# Altium integrated library TI Power Management Linear Regulator Single Channel LDO (400-7500mA).IntLib: 1408 symbols (part 21 of 60)
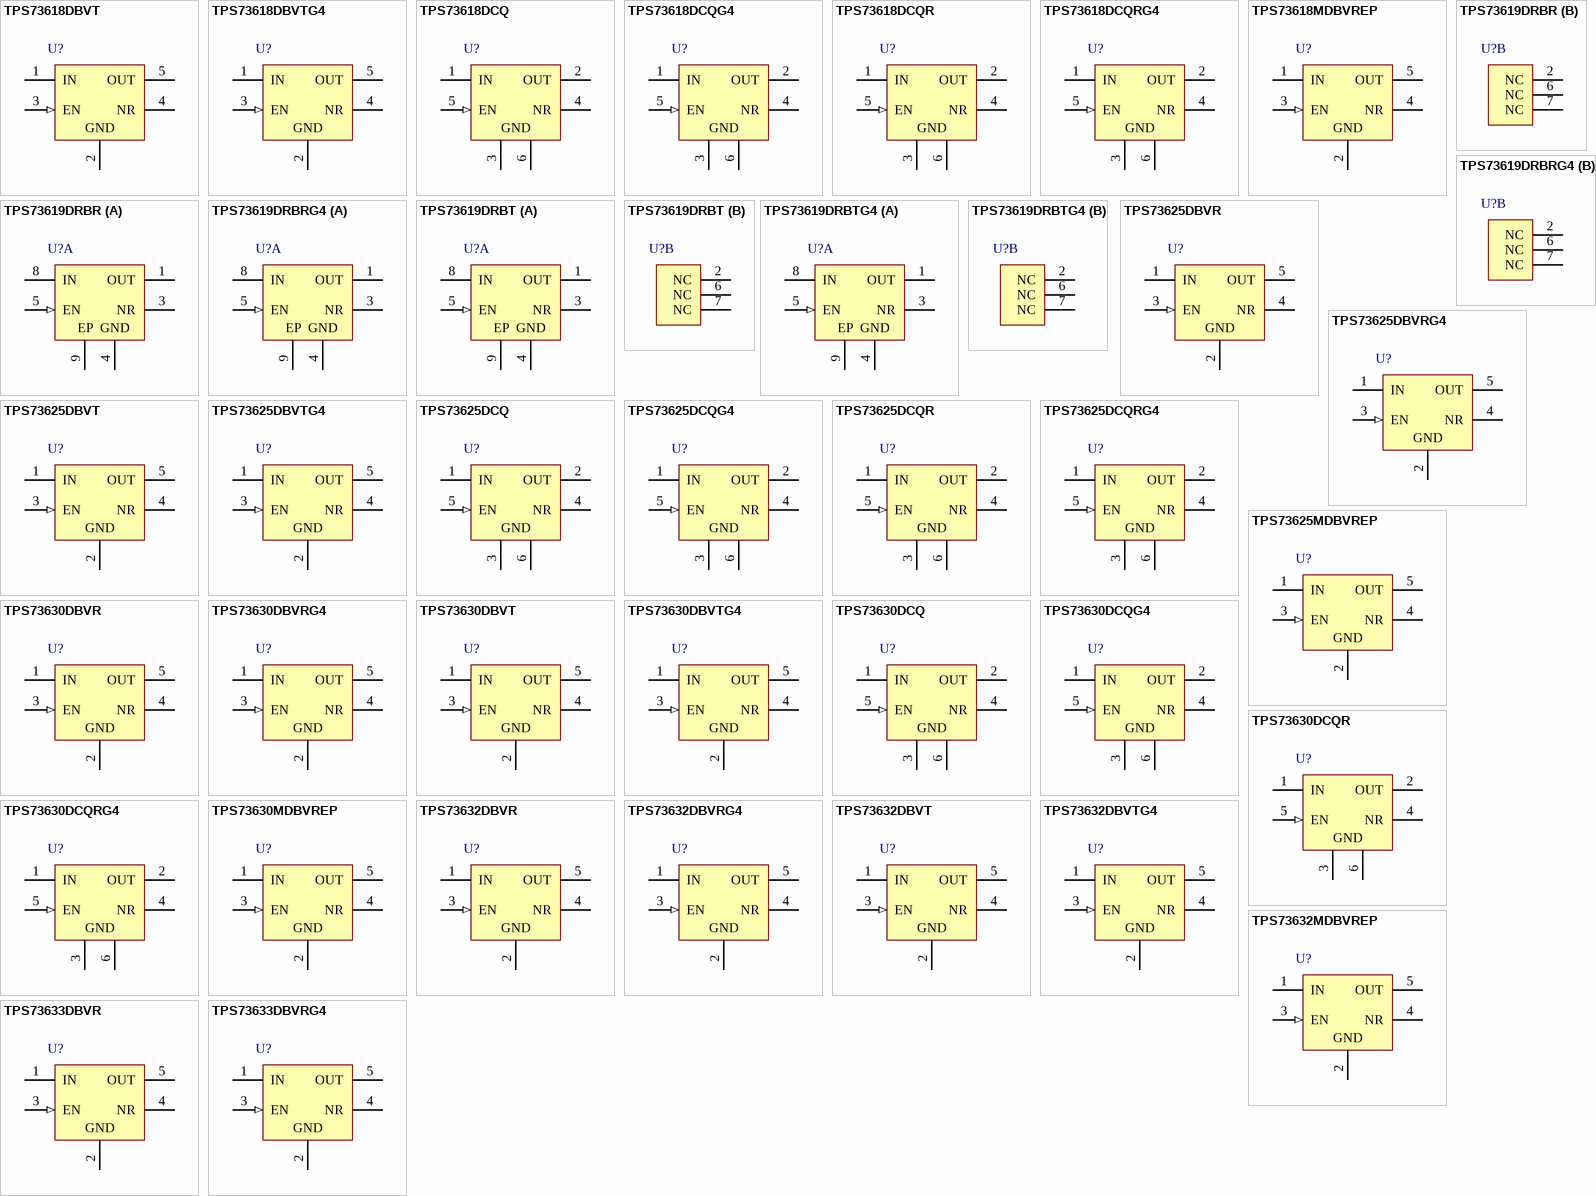
[diagram p70: symbols TPS73618DBVT to TPS73633DBVRG4]

## TPS73632DBVRG4
designator U?
Single Output Low Noise LDO, 400 mA, Fixed 3.2 V Output, 1.7 to 5.5 V Input, with Reverse Current Protection, 5-pin SOT-23 (DBV), -40 to 85 degC, Green (RoHS & no Sb/Br); Manufacturer: Texas Instruments; PartNumber: TPS73632DBVRG4; Accuracy(%): 1; Fixed Output Options(V): 3.2; Iout(Max)(A): 0.4; Iq(Typ)(mA): 0.3; Rating: Catalog; SubFamily: Single Channel LDO; Vdo(Typ)(mV): 75; Vin(Max)(V): 5.5; Vin(Min)(V): 1.7; DatasheetVersion: SBVS038T; PackageVersion: 4073253-4/K; PackageReference: DBV5; PackageDescription: 5-Pin Plastic Small Outline, Body 1.60 Ã— 2.90 mm, Pitch 0.95 mm; Supplier 1: Digi-Key; Supplier Part Number 1: TPS73632DBVRG4-ND; Supplier 2: Newark; Supplier Part Number 2: 71J8238; Supplier 3: Mouser; Supplier Part Number 3: 595-TPS73632DBVRG4; Eco-Plan: Green (RoHS & no Sb/Br); Vout Adj(Max)(V): 3.2; Vout Adj(Min)(V): 3.2; Mounting Technology: Surface Mount; Code_JEDEC: MO-178; ComponentLink1Description: Manufacturer URL; ComponentLink1URL: http://www.ti.com/; ComponentLink2Description: Datasheet; ComponentLink2URL: http://www.ti.com/general/docs/lit/getliterature.tsp?genericPartNumber=TPS73632&fileType=pdf; ComponentLink3Description: Package Specification; ComponentLink3URL: http://www.ti.com/litv/pdf/mpds018i; ComponentLink4Description: URL Link1; ComponentLink4URL: Samples URL:http://www.ti.com/product/tps73632#samples
footprint TI-DBV5_N (SOT23, 5-Leads, Body 2.9x1.6mm, Pitch 0.95mm, IPC Medium Density)
footprint TI-DBV5_L (SOT23, 5-Leads, Body 2.9x1.6mm, Pitch 0.95mm, IPC High Density)
footprint TI-DBV5_M (SOT23, 5-Leads, Body 2.9x1.6mm, Pitch 0.95mm, IPC Low Density)
pins: 1 IN (power) "Input supply.", 2 GND (power) "Ground.", 3 EN (in) "Driving the enable pin (EN) high turns on the regulator .Driving this pin low puts the regulator into shutdown mode.EN can be connected to IN if not used.", 4 NR "Fixed voltage versions only; connecting an external capacitor to this pin bypasses noise generated by the internal bandgap. This capacitor allows output noise to be reduced to very low levels.", 5 OUT (power) "Output for the regulator. A small capacitor (total typical capacitance >= 2.0uF ceramic) is needed from this pin to ground to assure stability."

## TPS73632DBVT
designator U?
Single Output Low Noise LDO, 400 mA, Fixed 3.2 V Output, 1.7 to 5.5 V Input, with Reverse Current Protection, 5-pin SOT-23 (DBV), -40 to 85 degC, Green (RoHS & no Sb/Br); Manufacturer: Texas Instruments; PartNumber: TPS73632DBVT; Accuracy(%): 1; Fixed Output Options(V): 3.2; Iout(Max)(A): 0.4; Iq(Typ)(mA): 0.3; Rating: Catalog; SubFamily: Single Channel LDO; Vdo(Typ)(mV): 75; Vin(Max)(V): 5.5; Vin(Min)(V): 1.7; DatasheetVersion: SBVS038T; PackageVersion: 4073253-4/K; PackageReference: DBV5; PackageDescription: 5-Pin Plastic Small Outline, Body 1.60 Ã— 2.90 mm, Pitch 0.95 mm; Supplier 1: Digi-Key; Supplier Part Number 1: 296-17424-2-ND; Supplier 2: Digi-Key; Supplier Part Number 2: 296-17424-1-ND; Supplier 3: Digi-Key; Supplier Part Number 3: 296-17424-6-ND; Supplier 4: Newark; Supplier Part Number 4: 44J2542; Supplier 5: Mouser; Supplier Part Number 5: 595-TPS73632DBVT; Eco-Plan: Green (RoHS & no Sb/Br); Vout Adj(Max)(V): 3.2; Vout Adj(Min)(V): 3.2; Mounting Technology: Surface Mount; Code_JEDEC: MO-178; ComponentLink1Description: Manufacturer URL; ComponentLink1URL: http://www.ti.com/; ComponentLink2Description: Datasheet; ComponentLink2URL: http://www.ti.com/general/docs/lit/getliterature.tsp?genericPartNumber=TPS73632&fileType=pdf; ComponentLink3Description: Package Specification; ComponentLink3URL: http://www.ti.com/litv/pdf/mpds018i; ComponentLink4Description: URL Link1; ComponentLink4URL: Samples URL:http://www.ti.com/product/tps73632#samples
footprint TI-DBV5_N (SOT23, 5-Leads, Body 2.9x1.6mm, Pitch 0.95mm, IPC Medium Density)
footprint TI-DBV5_L (SOT23, 5-Leads, Body 2.9x1.6mm, Pitch 0.95mm, IPC High Density)
footprint TI-DBV5_M (SOT23, 5-Leads, Body 2.9x1.6mm, Pitch 0.95mm, IPC Low Density)
pins: 1 IN (power) "Input supply.", 2 GND (power) "Ground.", 3 EN (in) "Driving the enable pin (EN) high turns on the regulator .Driving this pin low puts the regulator into shutdown mode.EN can be connected to IN if not used.", 4 NR "Fixed voltage versions only; connecting an external capacitor to this pin bypasses noise generated by the internal bandgap. This capacitor allows output noise to be reduced to very low levels.", 5 OUT (power) "Output for the regulator. A small capacitor (total typical capacitance >= 2.0uF ceramic) is needed from this pin to ground to assure stability."

## TPS73632DBVTG4
designator U?
Single Output Low Noise LDO, 400 mA, Fixed 3.2 V Output, 1.7 to 5.5 V Input, with Reverse Current Protection, 5-pin SOT-23 (DBV), -40 to 85 degC, Green (RoHS & no Sb/Br); Manufacturer: Texas Instruments; PartNumber: TPS73632DBVTG4; Accuracy(%): 1; Fixed Output Options(V): 3.2; Iout(Max)(A): 0.4; Iq(Typ)(mA): 0.3; Rating: Catalog; SubFamily: Single Channel LDO; Vdo(Typ)(mV): 75; Vin(Max)(V): 5.5; Vin(Min)(V): 1.7; DatasheetVersion: SBVS038T; PackageVersion: 4073253-4/K; PackageReference: DBV5; PackageDescription: 5-Pin Plastic Small Outline, Body 1.60 Ã— 2.90 mm, Pitch 0.95 mm; Supplier 1: Digi-Key; Supplier Part Number 1: TPS73632DBVTG4-ND; Supplier 2: Mouser; Supplier Part Number 2: 595-TPS73632DBVTG4; Eco-Plan: Green (RoHS & no Sb/Br); Vout Adj(Max)(V): 3.2; Vout Adj(Min)(V): 3.2; Mounting Technology: Surface Mount; Code_JEDEC: MO-178; ComponentLink1Description: Manufacturer URL; ComponentLink1URL: http://www.ti.com/; ComponentLink2Description: Datasheet; ComponentLink2URL: http://www.ti.com/general/docs/lit/getliterature.tsp?genericPartNumber=TPS73632&fileType=pdf; ComponentLink3Description: Package Specification; ComponentLink3URL: http://www.ti.com/litv/pdf/mpds018i; ComponentLink4Description: URL Link1; ComponentLink4URL: Samples URL:http://www.ti.com/product/tps73632#samples
footprint TI-DBV5_N (SOT23, 5-Leads, Body 2.9x1.6mm, Pitch 0.95mm, IPC Medium Density)
footprint TI-DBV5_L (SOT23, 5-Leads, Body 2.9x1.6mm, Pitch 0.95mm, IPC High Density)
footprint TI-DBV5_M (SOT23, 5-Leads, Body 2.9x1.6mm, Pitch 0.95mm, IPC Low Density)
pins: 1 IN (power) "Input supply.", 2 GND (power) "Ground.", 3 EN (in) "Driving the enable pin (EN) high turns on the regulator .Driving this pin low puts the regulator into shutdown mode.EN can be connected to IN if not used.", 4 NR "Fixed voltage versions only; connecting an external capacitor to this pin bypasses noise generated by the internal bandgap. This capacitor allows output noise to be reduced to very low levels.", 5 OUT (power) "Output for the regulator. A small capacitor (total typical capacitance >= 2.0uF ceramic) is needed from this pin to ground to assure stability."

## TPS73632MDBVREP
designator U?
Single Output LDO, 400 mA, Fixed 3.2 V Output, 1.7 to 5.5 V Input, with Reverse Current Protection, 5-pin SOT-23 (DBV), -55 to 125 degC, Green (RoHS & no Sb/Br); Manufacturer: Texas Instruments; PartNumber: TPS73632MDBVREP; Accuracy(%): 1; Fixed Output Options(V): 3.2; Iout(Max)(A): 0.4; Iq(Typ)(mA): 0.3; Rating: HiRel Enhanced Product; SubFamily: Single Channel LDO; Vdo(Typ)(mV): 75; Vin(Max)(V): 5.5; Vin(Min)(V): 1.7; DatasheetVersion: SGLS326C; PackageVersion: 4073253-4/K; PackageReference: DBV5; PackageDescription: 5-Pin Plastic Small Outline, Body 1.60 Ã— 2.90 mm, Pitch 0.95 mm; Supplier 1: Digi-Key; Supplier Part Number 1: 296-21282-2-ND; Supplier 2: Digi-Key; Supplier Part Number 2: 296-21282-1-ND; Supplier 3: Digi-Key; Supplier Part Number 3: 296-21282-6-ND; Supplier 4: Newark; Supplier Part Number 4: 46M1158; Supplier 5: Mouser; Supplier Part Number 5: 595-TPS73632MDBVREP; Eco-Plan: Green (RoHS & no Sb/Br); Vout Adj(Max)(V): 3.2; Vout Adj(Min)(V): 3.2; Mounting Technology: Surface Mount; Code_JEDEC: MO-178; ComponentLink1Description: Manufacturer URL; ComponentLink1URL: http://www.ti.com/; ComponentLink2Description: Datasheet; ComponentLink2URL: http://www.ti.com/general/docs/lit/getliterature.tsp?genericPartNumber=TPS73632-EP&fileType=pdf; ComponentLink3Description: Package Specification; ComponentLink3URL: http://www.ti.com/litv/pdf/mpds018i; ComponentLink4Description: URL Link1; ComponentLink4URL: Samples URL:http://www.ti.com/product/tps73632-ep#samples
footprint TI-DBV5_N (SOT23, 5-Leads, Body 2.9x1.6mm, Pitch 0.95mm, IPC Medium Density)
footprint TI-DBV5_L (SOT23, 5-Leads, Body 2.9x1.6mm, Pitch 0.95mm, IPC High Density)
footprint TI-DBV5_M (SOT23, 5-Leads, Body 2.9x1.6mm, Pitch 0.95mm, IPC Low Density)
pins: 1 IN (power) "Input supply.", 2 GND (power) "Ground.", 3 EN (in) "Driving the enable pin (EN) high turns on the regulator .Driving this pin low puts the regulator into shutdown mode.EN can be connected to IN if not used.", 4 NR "Fixed voltage versions only; connecting an external capacitor to this pin bypasses noise generated by the internal bandgap. This capacitor allows output noise to be reduced to very low levels.", 5 OUT (power) "Output for the regulator. A small capacitor (total typical capacitance >= 2.0uF ceramic) is needed from this pin to ground to assure stability."

## TPS73633DBVR
designator U?
Single Output Low Noise LDO, 400 mA, Fixed 3.3 V Output, 1.7 to 5.5 V Input, with Reverse Current Protection, 5-pin SOT-23 (DBV), -40 to 85 degC, Green (RoHS & no Sb/Br); Manufacturer: Texas Instruments; PartNumber: TPS73633DBVR; Accuracy(%): 1; Fixed Output Options(V): 3.3; Iout(Max)(A): 0.4; Iq(Typ)(mA): 0.3; Rating: Catalog; SubFamily: Single Channel LDO; Vdo(Typ)(mV): 75; Vin(Max)(V): 5.5; Vin(Min)(V): 1.7; DatasheetVersion: SBVS038T; PackageVersion: 4073253-4/K; PackageReference: DBV5; PackageDescription: 5-Pin Plastic Small Outline, Body 1.60 Ã— 2.90 mm, Pitch 0.95 mm; Supplier 1: Digi-Key; Supplier Part Number 1: 296-27064-2-ND; Supplier 2: Digi-Key; Supplier Part Number 2: 296-27064-1-ND; Supplier 3: Digi-Key; Supplier Part Number 3: 296-27064-6-ND; Supplier 4: Newark; Supplier Part Number 4: 87H2980; Supplier 5: Mouser; Supplier Part Number 5: 595-TPS73633DBVR; Eco-Plan: Green (RoHS & no Sb/Br); Vout Adj(Max)(V): 3.3; Vout Adj(Min)(V): 3.3; Mounting Technology: Surface Mount; Code_JEDEC: MO-178; ComponentLink1Description: Manufacturer URL; ComponentLink1URL: http://www.ti.com/; ComponentLink2Description: Datasheet; ComponentLink2URL: http://www.ti.com/general/docs/lit/getliterature.tsp?genericPartNumber=TPS73633&fileType=pdf; ComponentLink3Description: Package Specification; ComponentLink3URL: http://www.ti.com/litv/pdf/mpds018i; ComponentLink4Description: URL Link1; ComponentLink4URL: Samples URL:http://www.ti.com/product/tps73633#samples
footprint TI-DBV5_N (SOT23, 5-Leads, Body 2.9x1.6mm, Pitch 0.95mm, IPC Medium Density)
footprint TI-DBV5_L (SOT23, 5-Leads, Body 2.9x1.6mm, Pitch 0.95mm, IPC High Density)
footprint TI-DBV5_M (SOT23, 5-Leads, Body 2.9x1.6mm, Pitch 0.95mm, IPC Low Density)
pins: 1 IN (power) "Input supply.", 2 GND (power) "Ground.", 3 EN (in) "Driving the enable pin (EN) high turns on the regulator .Driving this pin low puts the regulator into shutdown mode.EN can be connected to IN if not used.", 4 NR "Fixed voltage versions only; connecting an external capacitor to this pin bypasses noise generated by the internal bandgap. This capacitor allows output noise to be reduced to very low levels.", 5 OUT (power) "Output for the regulator. A small capacitor (total typical capacitance >= 2.0uF ceramic) is needed from this pin to ground to assure stability."

## TPS73633DBVRG4
designator U?
Single Output Low Noise LDO, 400 mA, Fixed 3.3 V Output, 1.7 to 5.5 V Input, with Reverse Current Protection, 5-pin SOT-23 (DBV), -40 to 85 degC, Green (RoHS & no Sb/Br); Manufacturer: Texas Instruments; PartNumber: TPS73633DBVRG4; Accuracy(%): 1; Fixed Output Options(V): 3.3; Iout(Max)(A): 0.4; Iq(Typ)(mA): 0.3; Rating: Catalog; SubFamily: Single Channel LDO; Vdo(Typ)(mV): 75; Vin(Max)(V): 5.5; Vin(Min)(V): 1.7; DatasheetVersion: SBVS038T; PackageVersion: 4073253-4/K; PackageReference: DBV5; PackageDescription: 5-Pin Plastic Small Outline, Body 1.60 Ã— 2.90 mm, Pitch 0.95 mm; Supplier 1: Digi-Key; Supplier Part Number 1: TPS73633DBVRG4-ND; Supplier 2: Newark; Supplier Part Number 2: 71J8239; Supplier 3: Mouser; Supplier Part Number 3: 595-TPS73633DBVRG4; Eco-Plan: Green (RoHS & no Sb/Br); Vout Adj(Max)(V): 3.3; Vout Adj(Min)(V): 3.3; Mounting Technology: Surface Mount; Code_JEDEC: MO-178; ComponentLink1Description: Manufacturer URL; ComponentLink1URL: http://www.ti.com/; ComponentLink2Description: Datasheet; ComponentLink2URL: http://www.ti.com/general/docs/lit/getliterature.tsp?genericPartNumber=TPS73633&fileType=pdf; ComponentLink3Description: Package Specification; ComponentLink3URL: http://www.ti.com/litv/pdf/mpds018i; ComponentLink4Description: URL Link1; ComponentLink4URL: Samples URL:http://www.ti.com/product/tps73633#samples
footprint TI-DBV5_N (SOT23, 5-Leads, Body 2.9x1.6mm, Pitch 0.95mm, IPC Medium Density)
footprint TI-DBV5_L (SOT23, 5-Leads, Body 2.9x1.6mm, Pitch 0.95mm, IPC High Density)
footprint TI-DBV5_M (SOT23, 5-Leads, Body 2.9x1.6mm, Pitch 0.95mm, IPC Low Density)
pins: 1 IN (power) "Input supply.", 2 GND (power) "Ground.", 3 EN (in) "Driving the enable pin (EN) high turns on the regulator .Driving this pin low puts the regulator into shutdown mode.EN can be connected to IN if not used.", 4 NR "Fixed voltage versions only; connecting an external capacitor to this pin bypasses noise generated by the internal bandgap. This capacitor allows output noise to be reduced to very low levels.", 5 OUT (power) "Output for the regulator. A small capacitor (total typical capacitance >= 2.0uF ceramic) is needed from this pin to ground to assure stability."

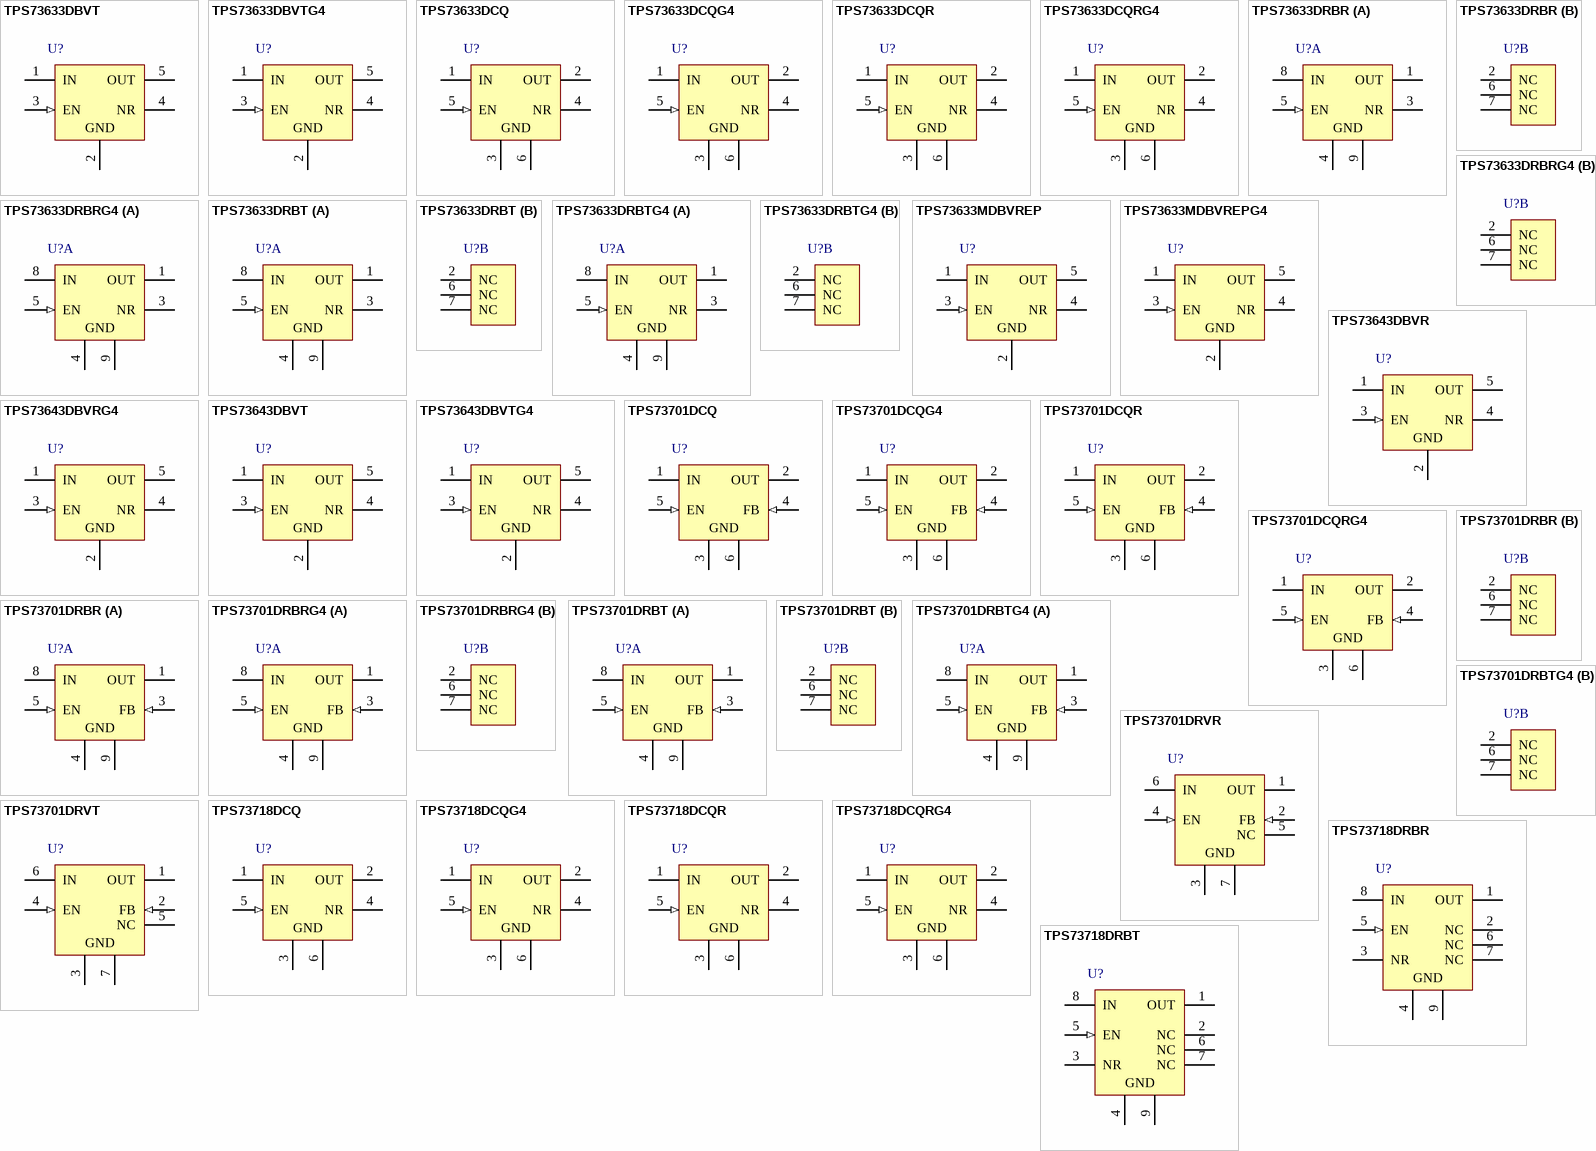
[diagram p14: symbols TPS73633DBVT to TPS73718DRBT]

## TPS73633DBVT
designator U?
Single Output Low Noise LDO, 400 mA, Fixed 3.3 V Output, 1.7 to 5.5 V Input, with Reverse Current Protection, 5-pin SOT-23 (DBV), -40 to 85 degC, Green (RoHS & no Sb/Br); Manufacturer: Texas Instruments; PartNumber: TPS73633DBVT; Accuracy(%): 1; Fixed Output Options(V): 3.3; Iout(Max)(A): 0.4; Iq(Typ)(mA): 0.3; Rating: Catalog; SubFamily: Single Channel LDO; Vdo(Typ)(mV): 75; Vin(Max)(V): 5.5; Vin(Min)(V): 1.7; DatasheetVersion: SBVS038T; PackageVersion: 4073253-4/K; PackageReference: DBV5; PackageDescription: 5-Pin Plastic Small Outline, Body 1.60 Ã— 2.90 mm, Pitch 0.95 mm; Supplier 1: Digi-Key; Supplier Part Number 1: 296-15819-2-ND; Supplier 2: Digi-Key; Supplier Part Number 2: 296-15819-1-ND; Supplier 3: Digi-Key; Supplier Part Number 3: 296-15819-6-ND; Supplier 4: Newark; Supplier Part Number 4: 87H2981; Supplier 5: Mouser; Supplier Part Number 5: 595-TPS73633DBVT; Eco-Plan: Green (RoHS & no Sb/Br); Vout Adj(Max)(V): 3.3; Vout Adj(Min)(V): 3.3; Mounting Technology: Surface Mount; Code_JEDEC: MO-178; ComponentLink1Description: Manufacturer URL; ComponentLink1URL: http://www.ti.com/; ComponentLink2Description: Datasheet; ComponentLink2URL: http://www.ti.com/general/docs/lit/getliterature.tsp?genericPartNumber=TPS73633&fileType=pdf; ComponentLink3Description: Package Specification; ComponentLink3URL: http://www.ti.com/litv/pdf/mpds018i; ComponentLink4Description: URL Link1; ComponentLink4URL: Samples URL:http://www.ti.com/product/tps73633#samples
footprint TI-DBV5_N (SOT23, 5-Leads, Body 2.9x1.6mm, Pitch 0.95mm, IPC Medium Density)
footprint TI-DBV5_L (SOT23, 5-Leads, Body 2.9x1.6mm, Pitch 0.95mm, IPC High Density)
footprint TI-DBV5_M (SOT23, 5-Leads, Body 2.9x1.6mm, Pitch 0.95mm, IPC Low Density)
pins: 1 IN (power) "Input supply.", 2 GND (power) "Ground.", 3 EN (in) "Driving the enable pin (EN) high turns on the regulator .Driving this pin low puts the regulator into shutdown mode.EN can be connected to IN if not used.", 4 NR "Fixed voltage versions only; connecting an external capacitor to this pin bypasses noise generated by the internal bandgap. This capacitor allows output noise to be reduced to very low levels.", 5 OUT (power) "Output for the regulator. A small capacitor (total typical capacitance >= 2.0uF ceramic) is needed from this pin to ground to assure stability."

## TPS73633DBVTG4
designator U?
Single Output Low Noise LDO, 400 mA, Fixed 3.3 V Output, 1.7 to 5.5 V Input, with Reverse Current Protection, 5-pin SOT-23 (DBV), -40 to 85 degC, Green (RoHS & no Sb/Br); Manufacturer: Texas Instruments; PartNumber: TPS73633DBVTG4; Accuracy(%): 1; Fixed Output Options(V): 3.3; Iout(Max)(A): 0.4; Iq(Typ)(mA): 0.3; Rating: Catalog; SubFamily: Single Channel LDO; Vdo(Typ)(mV): 75; Vin(Max)(V): 5.5; Vin(Min)(V): 1.7; DatasheetVersion: SBVS038T; PackageVersion: 4073253-4/K; PackageReference: DBV5; PackageDescription: 5-Pin Plastic Small Outline, Body 1.60 Ã— 2.90 mm, Pitch 0.95 mm; Supplier 1: Digi-Key; Supplier Part Number 1: TPS73633DBVTG4-ND; Supplier 2: Farnell; Supplier Part Number 2: 1207346RL; Supplier 3: Farnell; Supplier Part Number 3: 1207346; Supplier 4: Newark; Supplier Part Number 4: 62M0776; Supplier 5: Newark; Supplier Part Number 5: 33K7706; Supplier 6: Mouser; Supplier Part Number 6: 595-TPS73633DBVTG4; Eco-Plan: Green (RoHS & no Sb/Br); Vout Adj(Max)(V): 3.3; Vout Adj(Min)(V): 3.3; Mounting Technology: Surface Mount; Code_JEDEC: MO-178; ComponentLink1Description: Manufacturer URL; ComponentLink1URL: http://www.ti.com/; ComponentLink2Description: Datasheet; ComponentLink2URL: http://www.ti.com/general/docs/lit/getliterature.tsp?genericPartNumber=TPS73633&fileType=pdf; ComponentLink3Description: Package Specification; ComponentLink3URL: http://www.ti.com/litv/pdf/mpds018i; ComponentLink4Description: URL Link1; ComponentLink4URL: Samples URL:http://www.ti.com/product/tps73633#samples
footprint TI-DBV5_N (SOT23, 5-Leads, Body 2.9x1.6mm, Pitch 0.95mm, IPC Medium Density)
footprint TI-DBV5_L (SOT23, 5-Leads, Body 2.9x1.6mm, Pitch 0.95mm, IPC High Density)
footprint TI-DBV5_M (SOT23, 5-Leads, Body 2.9x1.6mm, Pitch 0.95mm, IPC Low Density)
pins: 1 IN (power) "Input supply.", 2 GND (power) "Ground.", 3 EN (in) "Driving the enable pin (EN) high turns on the regulator .Driving this pin low puts the regulator into shutdown mode.EN can be connected to IN if not used.", 4 NR "Fixed voltage versions only; connecting an external capacitor to this pin bypasses noise generated by the internal bandgap. This capacitor allows output noise to be reduced to very low levels.", 5 OUT (power) "Output for the regulator. A small capacitor (total typical capacitance >= 2.0uF ceramic) is needed from this pin to ground to assure stability."

## TPS73633DCQ
designator U?
Single Output Low Noise LDO, 400 mA, Fixed 3.3 V Output, 1.7 to 5.5 V Input, with Reverse Current Protection, 6-pin SOT-223 (DCQ), -40 to 85 degC, Green (RoHS & no Sb/Br); Manufacturer: Texas Instruments; PartNumber: TPS73633DCQ; Accuracy(%): 1; Fixed Output Options(V): 3.3; Iout(Max)(A): 0.4; Iq(Typ)(mA): 0.3; Rating: Catalog; SubFamily: Single Channel LDO; Vdo(Typ)(mV): 75; Vin(Max)(V): 5.5; Vin(Min)(V): 1.7; DatasheetVersion: SBVS038T; PackageVersion: 4202109/D; PackageReference: DCQ6; PackageDescription: 6-Pin Plastic Small Outline, Body 3.5 x 6.5 mm, Pitch 1.27 mm; Supplier 1: Digi-Key; Supplier Part Number 1: 296-27065-5-ND; Supplier 2: Farnell; Supplier Part Number 2: 1135416; Supplier 3: Newark; Supplier Part Number 3: 93K0912; Supplier 4: Newark; Supplier Part Number 4: 01J1012; Supplier 5: Mouser; Supplier Part Number 5: 595-TPS73633DCQ; Eco-Plan: Green (RoHS & no Sb/Br); Vout Adj(Max)(V): 3.3; Vout Adj(Min)(V): 3.3; Mounting Technology: Surface Mount; ComponentLink1Description: Manufacturer URL; ComponentLink1URL: http://www.ti.com/; ComponentLink2Description: Datasheet; ComponentLink2URL: http://www.ti.com/general/docs/lit/getliterature.tsp?genericPartNumber=TPS73633&fileType=pdf; ComponentLink3Description: Package Specification; ComponentLink3URL: http://www.ti.com/litv/pdf/mpds098c; ComponentLink4Description: URL Link1; ComponentLink4URL: Samples URL:http://www.ti.com/product/tps73633#samples
footprint TI-DCQ6_N (SOT223, 6-Leads, Body 6.5x3.5mm, Pitch 1.27mm, IPC Medium Density)
footprint TI-DCQ6_L (SOT223, 6-Leads, Body 6.5x3.5mm, Pitch 1.27mm, IPC High Density)
footprint TI-DCQ6_M (SOT223, 6-Leads, Body 6.5x3.5mm, Pitch 1.27mm, IPC Low Density)
pins: 1 IN (power) "Unregulated input supply", 2 OUT (power) "Regulator output. A 1.0uF or larger capacitor of any type is required for stability.", 3 GND (power) "Ground", 4 NR "Fixed voltage versions only-connecting an external capacitor to this pin bypasses noise generated by the internal bandgap, reducing output noise to very low levels.", 5 EN (in) "Driving the enable pin (EN) high turns on the regulator. Driving this pin low puts the regulator into shutdown mode.EN must not be left floating and can be connected to IN if not used.", 6 GND (power) "Ground"

## TPS73633DCQG4
designator U?
Single Output Low Noise LDO, 400 mA, Fixed 3.3 V Output, 1.7 to 5.5 V Input, with Reverse Current Protection, 6-pin SOT-223 (DCQ), -40 to 85 degC, Green (RoHS & no Sb/Br); Manufacturer: Texas Instruments; PartNumber: TPS73633DCQG4; Accuracy(%): 1; Fixed Output Options(V): 3.3; Iout(Max)(A): 0.4; Iq(Typ)(mA): 0.3; Rating: Catalog; SubFamily: Single Channel LDO; Vdo(Typ)(mV): 75; Vin(Max)(V): 5.5; Vin(Min)(V): 1.7; DatasheetVersion: SBVS038T; PackageVersion: 4202109/D; PackageReference: DCQ6; PackageDescription: 6-Pin Plastic Small Outline, Body 3.5 x 6.5 mm, Pitch 1.27 mm; Supplier 1: Digi-Key; Supplier Part Number 1: TPS73633DCQG4-ND; Supplier 2: Newark; Supplier Part Number 2: 58K6973; Supplier 3: Mouser; Supplier Part Number 3: 595-TPS73633DCQG4; Eco-Plan: Green (RoHS & no Sb/Br); Vout Adj(Max)(V): 3.3; Vout Adj(Min)(V): 3.3; Mounting Technology: Surface Mount; ComponentLink1Description: Manufacturer URL; ComponentLink1URL: http://www.ti.com/; ComponentLink2Description: Datasheet; ComponentLink2URL: http://www.ti.com/general/docs/lit/getliterature.tsp?genericPartNumber=TPS73633&fileType=pdf; ComponentLink3Description: Package Specification; ComponentLink3URL: http://www.ti.com/litv/pdf/mpds098c; ComponentLink4Description: URL Link1; ComponentLink4URL: Samples URL:http://www.ti.com/product/tps73633#samples
footprint TI-DCQ6_N (SOT223, 6-Leads, Body 6.5x3.5mm, Pitch 1.27mm, IPC Medium Density)
footprint TI-DCQ6_L (SOT223, 6-Leads, Body 6.5x3.5mm, Pitch 1.27mm, IPC High Density)
footprint TI-DCQ6_M (SOT223, 6-Leads, Body 6.5x3.5mm, Pitch 1.27mm, IPC Low Density)
pins: 1 IN (power) "Unregulated input supply", 2 OUT (power) "Regulator output. A 1.0uF or larger capacitor of any type is required for stability.", 3 GND (power) "Ground", 4 NR "Fixed voltage versions only-connecting an external capacitor to this pin bypasses noise generated by the internal bandgap, reducing output noise to very low levels.", 5 EN (in) "Driving the enable pin (EN) high turns on the regulator. Driving this pin low puts the regulator into shutdown mode.EN must not be left floating and can be connected to IN if not used.", 6 GND (power) "Ground"

## TPS73633DCQR
designator U?
Single Output Low Noise LDO, 400 mA, Fixed 3.3 V Output, 1.7 to 5.5 V Input, with Reverse Current Protection, 6-pin SOT-223 (DCQ), -40 to 85 degC, Green (RoHS & no Sb/Br); Manufacturer: Texas Instruments; PartNumber: TPS73633DCQR; Accuracy(%): 1; Fixed Output Options(V): 3.3; Iout(Max)(A): 0.4; Iq(Typ)(mA): 0.3; Rating: Catalog; SubFamily: Single Channel LDO; Vdo(Typ)(mV): 75; Vin(Max)(V): 5.5; Vin(Min)(V): 1.7; DatasheetVersion: SBVS038T; PackageVersion: 4202109/D; PackageReference: DCQ6; PackageDescription: 6-Pin Plastic Small Outline, Body 3.5 x 6.5 mm, Pitch 1.27 mm; Supplier 1: Digi-Key; Supplier Part Number 1: 296-16914-2-ND; Supplier 2: Digi-Key; Supplier Part Number 2: 296-16914-1-ND; Supplier 3: Digi-Key; Supplier Part Number 3: 296-16914-6-ND; Supplier 4: Newark; Supplier Part Number 4: 01J1013; Supplier 5: Mouser; Supplier Part Number 5: 595-TPS73633DCQR; Eco-Plan: Green (RoHS & no Sb/Br); Vout Adj(Max)(V): 3.3; Vout Adj(Min)(V): 3.3; Mounting Technology: Surface Mount; ComponentLink1Description: Manufacturer URL; ComponentLink1URL: http://www.ti.com/; ComponentLink2Description: Datasheet; ComponentLink2URL: http://www.ti.com/general/docs/lit/getliterature.tsp?genericPartNumber=TPS73633&fileType=pdf; ComponentLink3Description: Package Specification; ComponentLink3URL: http://www.ti.com/litv/pdf/mpds098c; ComponentLink4Description: URL Link1; ComponentLink4URL: Samples URL:http://www.ti.com/product/tps73633#samples
footprint TI-DCQ6_N (SOT223, 6-Leads, Body 6.5x3.5mm, Pitch 1.27mm, IPC Medium Density)
footprint TI-DCQ6_L (SOT223, 6-Leads, Body 6.5x3.5mm, Pitch 1.27mm, IPC High Density)
footprint TI-DCQ6_M (SOT223, 6-Leads, Body 6.5x3.5mm, Pitch 1.27mm, IPC Low Density)
pins: 1 IN (power) "Unregulated input supply", 2 OUT (power) "Regulator output. A 1.0uF or larger capacitor of any type is required for stability.", 3 GND (power) "Ground", 4 NR "Fixed voltage versions only-connecting an external capacitor to this pin bypasses noise generated by the internal bandgap, reducing output noise to very low levels.", 5 EN (in) "Driving the enable pin (EN) high turns on the regulator. Driving this pin low puts the regulator into shutdown mode.EN must not be left floating and can be connected to IN if not used.", 6 GND (power) "Ground"

## TPS73633DCQRG4
designator U?
Single Output Low Noise LDO, 400 mA, Fixed 3.3 V Output, 1.7 to 5.5 V Input, with Reverse Current Protection, 6-pin SOT-223 (DCQ), -40 to 85 degC, Green (RoHS & no Sb/Br); Manufacturer: Texas Instruments; PartNumber: TPS73633DCQRG4; Accuracy(%): 1; Fixed Output Options(V): 3.3; Iout(Max)(A): 0.4; Iq(Typ)(mA): 0.3; Rating: Catalog; SubFamily: Single Channel LDO; Vdo(Typ)(mV): 75; Vin(Max)(V): 5.5; Vin(Min)(V): 1.7; DatasheetVersion: SBVS038T; PackageVersion: 4202109/D; PackageReference: DCQ6; PackageDescription: 6-Pin Plastic Small Outline, Body 3.5 x 6.5 mm, Pitch 1.27 mm; Supplier 1: Digi-Key; Supplier Part Number 1: TPS73633DCQRG4-ND; Supplier 2: Newark; Supplier Part Number 2: 58K6974; Supplier 3: Mouser; Supplier Part Number 3: 595-TPS73633DCQRG4; Eco-Plan: Green (RoHS & no Sb/Br); Vout Adj(Max)(V): 3.3; Vout Adj(Min)(V): 3.3; Mounting Technology: Surface Mount; ComponentLink1Description: Manufacturer URL; ComponentLink1URL: http://www.ti.com/; ComponentLink2Description: Datasheet; ComponentLink2URL: http://www.ti.com/general/docs/lit/getliterature.tsp?genericPartNumber=TPS73633&fileType=pdf; ComponentLink3Description: Package Specification; ComponentLink3URL: http://www.ti.com/litv/pdf/mpds098c; ComponentLink4Description: URL Link1; ComponentLink4URL: Samples URL:http://www.ti.com/product/tps73633#samples
footprint TI-DCQ6_N (SOT223, 6-Leads, Body 6.5x3.5mm, Pitch 1.27mm, IPC Medium Density)
footprint TI-DCQ6_L (SOT223, 6-Leads, Body 6.5x3.5mm, Pitch 1.27mm, IPC High Density)
footprint TI-DCQ6_M (SOT223, 6-Leads, Body 6.5x3.5mm, Pitch 1.27mm, IPC Low Density)
pins: 1 IN (power) "Unregulated input supply", 2 OUT (power) "Regulator output. A 1.0uF or larger capacitor of any type is required for stability.", 3 GND (power) "Ground", 4 NR "Fixed voltage versions only-connecting an external capacitor to this pin bypasses noise generated by the internal bandgap, reducing output noise to very low levels.", 5 EN (in) "Driving the enable pin (EN) high turns on the regulator. Driving this pin low puts the regulator into shutdown mode.EN must not be left floating and can be connected to IN if not used.", 6 GND (power) "Ground"

## TPS73633DRBR
designator U?
Single Output Low Noise LDO, 400 mA, Fixed 3.3 V Output, 1.7 to 5.5 V Input, with Reverse Current Protection, 8-pin SON (DRB), -40 to 85 degC, Green (RoHS & no Sb/Br); Manufacturer: Texas Instruments; PartNumber: TPS73633DRBR; Accuracy(%): 1; Fixed Output Options(V): 3.3; Iout(Max)(A): 0.4; Iq(Typ)(mA): 0.3; Rating: Catalog; SubFamily: Single Channel LDO; Vdo(Typ)(mV): 75; Vin(Max)(V): 5.5; Vin(Min)(V): 1.7; DatasheetVersion: SBVS038T; PackageVersion: 4203482-2/K; PackageReference: DRB8-1750X1500TP; PackageDescription: 8-Pin Plastic Small Outline, Body 3 x 3 mm, Pitch 0.65 mm; Supplier 1: Digi-Key; Supplier Part Number 1: 296-17884-2-ND; Supplier 2: Digi-Key; Supplier Part Number 2: 296-17884-1-ND; Supplier 3: Digi-Key; Supplier Part Number 3: 296-17884-6-ND; Supplier 4: Farnell; Supplier Part Number 4: 1544026; Supplier 5: Farnell; Supplier Part Number 5: 1544026RL; Supplier 6: Newark; Supplier Part Number 6: 65J6927; Supplier 7: Mouser; Supplier Part Number 7: 595-TPS73633DRBR; Eco-Plan: Green (RoHS & no Sb/Br); Vout Adj(Max)(V): 3.3; Vout Adj(Min)(V): 3.3; Mounting Technology: Surface Mount; ComponentLink1Description: Manufacturer URL; ComponentLink1URL: http://www.ti.com/; ComponentLink2Description: Datasheet; ComponentLink2URL: http://www.ti.com/general/docs/lit/getliterature.tsp?genericPartNumber=TPS73633&fileType=pdf; ComponentLink3Description: Package Specification; ComponentLink3URL: http://www.ti.com/litv/pdf/mpds118h; ComponentLink4Description: URL Link1; ComponentLink4URL: Samples URL:http://www.ti.com/product/tps73633#samples
footprint TI-DRB8-1750X1500TP_V (SON, 8-Leads, Body 3x3mm, Pitch 0.65mm, Thermal Pad 1.50 x 3.8mm)
part A pins: 1 OUT (power) "Output of the regulator. There are no output capacitor requirements for stability.", 3 NR "Fixed voltage versions only-connecting an external capacitor to this pin bypasses noise generated by the internal bandgap, reducing output noise to very low levels.", 4 GND (power) "Ground", 5 EN (in) "Driving the enable pin (EN) high turns on the regulator. Driving this pin low puts the  regulator into shutdown mode. Refer to the Shutdown section under Applications Information for more details. EN can be connected to IN (See Datasheet)", 8 IN (power) "Input supply", 9 GND (power) "Ground"
part B pins: 2 NC "No  connection", 6 NC "No  connection", 7 NC "No  connection"

## TPS73633DRBRG4
designator U?
Single Output Low Noise LDO, 400 mA, Fixed 3.3 V Output, 1.7 to 5.5 V Input, with Reverse Current Protection, 8-pin SON (DRB), -40 to 85 degC, Green (RoHS & no Sb/Br); Manufacturer: Texas Instruments; PartNumber: TPS73633DRBRG4; Accuracy(%): 1; Fixed Output Options(V): 3.3; Iout(Max)(A): 0.4; Iq(Typ)(mA): 0.3; Rating: Catalog; SubFamily: Single Channel LDO; Vdo(Typ)(mV): 75; Vin(Max)(V): 5.5; Vin(Min)(V): 1.7; DatasheetVersion: SBVS038T; PackageVersion: 4203482-2/K; PackageReference: DRB8-1750X1500TP; PackageDescription: 8-Pin Plastic Small Outline, Body 3 x 3 mm, Pitch 0.65 mm; Supplier 1: Digi-Key; Supplier Part Number 1: TPS73633DRBRG4-ND; Supplier 2: Newark; Supplier Part Number 2: 24K6134; Supplier 3: Mouser; Supplier Part Number 3: 595-TPS73633DRBRG4; Eco-Plan: Green (RoHS & no Sb/Br); Vout Adj(Max)(V): 3.3; Vout Adj(Min)(V): 3.3; Mounting Technology: Surface Mount; ComponentLink1Description: Manufacturer URL; ComponentLink1URL: http://www.ti.com/; ComponentLink2Description: Datasheet; ComponentLink2URL: http://www.ti.com/general/docs/lit/getliterature.tsp?genericPartNumber=TPS73633&fileType=pdf; ComponentLink3Description: Package Specification; ComponentLink3URL: http://www.ti.com/litv/pdf/mpds118h; ComponentLink4Description: URL Link1; ComponentLink4URL: Samples URL:http://www.ti.com/product/tps73633#samples
footprint TI-DRB8-1750X1500TP_V (SON, 8-Leads, Body 3x3mm, Pitch 0.65mm, Thermal Pad 1.50 x 3.8mm)
part A pins: 1 OUT (power) "Output of the regulator. There are no output capacitor requirements for stability.", 3 NR "Fixed voltage versions only-connecting an external capacitor to this pin bypasses noise generated by the internal bandgap, reducing output noise to very low levels.", 4 GND (power) "Ground", 5 EN (in) "Driving the enable pin (EN) high turns on the regulator. Driving this pin low puts the  regulator into shutdown mode. Refer to the Shutdown section under Applications Information for more details. EN can be connected to IN (See Datasheet)", 8 IN (power) "Input supply", 9 GND (power) "Ground"
part B pins: 2 NC "No  connection", 6 NC "No  connection", 7 NC "No  connection"

## TPS73633DRBT
designator U?
Single Output Low Noise LDO, 400 mA, Fixed 3.3 V Output, 1.7 to 5.5 V Input, with Reverse Current Protection, 8-pin SON (DRB), -40 to 85 degC, Green (RoHS & no Sb/Br); Manufacturer: Texas Instruments; PartNumber: TPS73633DRBT; Accuracy(%): 1; Fixed Output Options(V): 3.3; Iout(Max)(A): 0.4; Iq(Typ)(mA): 0.3; Rating: Catalog; SubFamily: Single Channel LDO; Vdo(Typ)(mV): 75; Vin(Max)(V): 5.5; Vin(Min)(V): 1.7; DatasheetVersion: SBVS038T; PackageVersion: 4203482-2/K; PackageReference: DRB8-1750X1500TP; PackageDescription: 8-Pin Plastic Small Outline, Body 3 x 3 mm, Pitch 0.65 mm; Supplier 1: Digi-Key; Supplier Part Number 1: 296-32558-2-ND; Supplier 2: Digi-Key; Supplier Part Number 2: 296-32558-1-ND; Supplier 3: Digi-Key; Supplier Part Number 3: 296-32558-6-ND; Supplier 4: Newark; Supplier Part Number 4: 65J6928; Supplier 5: Mouser; Supplier Part Number 5: 595-TPS73633DRBT; Eco-Plan: Green (RoHS & no Sb/Br); Vout Adj(Max)(V): 3.3; Vout Adj(Min)(V): 3.3; Mounting Technology: Surface Mount; ComponentLink1Description: Manufacturer URL; ComponentLink1URL: http://www.ti.com/; ComponentLink2Description: Datasheet; ComponentLink2URL: http://www.ti.com/general/docs/lit/getliterature.tsp?genericPartNumber=TPS73633&fileType=pdf; ComponentLink3Description: Package Specification; ComponentLink3URL: http://www.ti.com/litv/pdf/mpds118h; ComponentLink4Description: URL Link1; ComponentLink4URL: Samples URL:http://www.ti.com/product/tps73633#samples
footprint TI-DRB8-1750X1500TP_V (SON, 8-Leads, Body 3x3mm, Pitch 0.65mm, Thermal Pad 1.50 x 3.8mm)
part A pins: 1 OUT (power) "Output of the regulator. There are no output capacitor requirements for stability.", 3 NR "Fixed voltage versions only-connecting an external capacitor to this pin bypasses noise generated by the internal bandgap, reducing output noise to very low levels.", 4 GND (power) "Ground", 5 EN (in) "Driving the enable pin (EN) high turns on the regulator. Driving this pin low puts the  regulator into shutdown mode. Refer to the Shutdown section under Applications Information for more details. EN can be connected to IN (See Datasheet)", 8 IN (power) "Input supply", 9 GND (power) "Ground"
part B pins: 2 NC "No  connection", 6 NC "No  connection", 7 NC "No  connection"

## TPS73633DRBTG4
designator U?
Single Output Low Noise LDO, 400 mA, Fixed 3.3 V Output, 1.7 to 5.5 V Input, with Reverse Current Protection, 8-pin SON (DRB), -40 to 85 degC, Green (RoHS & no Sb/Br); Manufacturer: Texas Instruments; PartNumber: TPS73633DRBTG4; Accuracy(%): 1; Fixed Output Options(V): 3.3; Iout(Max)(A): 0.4; Iq(Typ)(mA): 0.3; Rating: Catalog; SubFamily: Single Channel LDO; Vdo(Typ)(mV): 75; Vin(Max)(V): 5.5; Vin(Min)(V): 1.7; DatasheetVersion: SBVS038T; PackageVersion: 4203482-2/K; PackageReference: DRB8-1750X1500TP; PackageDescription: 8-Pin Plastic Small Outline, Body 3 x 3 mm, Pitch 0.65 mm; Supplier 1: Digi-Key; Supplier Part Number 1: TPS73633DRBTG4-ND; Supplier 2: Newark; Supplier Part Number 2: 33K7707; Supplier 3: Mouser; Supplier Part Number 3: 595-TPS73633DRBTG4; Eco-Plan: Green (RoHS & no Sb/Br); Vout Adj(Max)(V): 3.3; Vout Adj(Min)(V): 3.3; Mounting Technology: Surface Mount; ComponentLink1Description: Manufacturer URL; ComponentLink1URL: http://www.ti.com/; ComponentLink2Description: Datasheet; ComponentLink2URL: http://www.ti.com/general/docs/lit/getliterature.tsp?genericPartNumber=TPS73633&fileType=pdf; ComponentLink3Description: Package Specification; ComponentLink3URL: http://www.ti.com/litv/pdf/mpds118h; ComponentLink4Description: URL Link1; ComponentLink4URL: Samples URL:http://www.ti.com/product/tps73633#samples
footprint TI-DRB8-1750X1500TP_V (SON, 8-Leads, Body 3x3mm, Pitch 0.65mm, Thermal Pad 1.50 x 3.8mm)
part A pins: 1 OUT (power) "Output of the regulator. There are no output capacitor requirements for stability.", 3 NR "Fixed voltage versions only-connecting an external capacitor to this pin bypasses noise generated by the internal bandgap, reducing output noise to very low levels.", 4 GND (power) "Ground", 5 EN (in) "Driving the enable pin (EN) high turns on the regulator. Driving this pin low puts the  regulator into shutdown mode. Refer to the Shutdown section under Applications Information for more details. EN can be connected to IN (See Datasheet)", 8 IN (power) "Input supply", 9 GND (power) "Ground"
part B pins: 2 NC "No  connection", 6 NC "No  connection", 7 NC "No  connection"

## TPS73633MDBVREP
designator U?
Single Output LDO, 400 mA, Fixed 3.3 V Output, 1.7 to 5.5 V Input, with Reverse Current Protection, 5-pin SOT-23 (DBV), -55 to 125 degC, Green (RoHS & no Sb/Br); Manufacturer: Texas Instruments; PartNumber: TPS73633MDBVREP; Accuracy(%): 1; Fixed Output Options(V): 3.3; Iout(Max)(A): 0.4; Iq(Typ)(mA): 0.3; Rating: HiRel Enhanced Product; SubFamily: Single Channel LDO; Vdo(Typ)(mV): 75; Vin(Max)(V): 5.5; Vin(Min)(V): 1.7; DatasheetVersion: SGLS326C; PackageVersion: 4073253-4/K; PackageReference: DBV5; PackageDescription: 5-Pin Plastic Small Outline, Body 1.60 Ã— 2.90 mm, Pitch 0.95 mm; Supplier 1: Arrow; Supplier Part Number 1: 42689386S7957775N2415; Supplier 2: Digi-Key; Supplier Part Number 2: 296-21283-2-ND; Supplier 3: Digi-Key; Supplier Part Number 3: 296-21283-1-ND; Supplier 4: Digi-Key; Supplier Part Number 4: 296-21283-6-ND; Supplier 5: Newark; Supplier Part Number 5: 46M1159; Supplier 6: Mouser; Supplier Part Number 6: 595-TPS73633MDBVREP; Eco-Plan: Green (RoHS & no Sb/Br); Vout Adj(Max)(V): 3.3; Vout Adj(Min)(V): 3.3; Mounting Technology: Surface Mount; Code_JEDEC: MO-178; ComponentLink1Description: Manufacturer URL; ComponentLink1URL: http://www.ti.com/; ComponentLink2Description: Datasheet; ComponentLink2URL: http://www.ti.com/general/docs/lit/getliterature.tsp?genericPartNumber=TPS73633-EP&fileType=pdf; ComponentLink3Description: Package Specification; ComponentLink3URL: http://www.ti.com/litv/pdf/mpds018i; ComponentLink4Description: URL Link1; ComponentLink4URL: Samples URL:http://www.ti.com/product/tps73633-ep#samples
footprint TI-DBV5_N (SOT23, 5-Leads, Body 2.9x1.6mm, Pitch 0.95mm, IPC Medium Density)
footprint TI-DBV5_L (SOT23, 5-Leads, Body 2.9x1.6mm, Pitch 0.95mm, IPC High Density)
footprint TI-DBV5_M (SOT23, 5-Leads, Body 2.9x1.6mm, Pitch 0.95mm, IPC Low Density)
pins: 1 IN (power) "Input supply.", 2 GND (power) "Ground.", 3 EN (in) "Driving the enable pin (EN) high turns on the regulator .Driving this pin low puts the regulator into shutdown mode.EN can be connected to IN if not used.", 4 NR "Fixed voltage versions only; connecting an external capacitor to this pin bypasses noise generated by the internal bandgap. This capacitor allows output noise to be reduced to very low levels.", 5 OUT (power) "Output for the regulator. A small capacitor (total typical capacitance >= 2.0uF ceramic) is needed from this pin to ground to assure stability."

## TPS73633MDBVREPG4
designator U?
Single Output LDO, 400 mA, Fixed 3.3 V Output, 1.7 to 5.5 V Input, with Reverse Current Protection, 5-pin SOT-23 (DBV), -55 to 125 degC, Green (RoHS & no Sb/Br); Manufacturer: Texas Instruments; PartNumber: TPS73633MDBVREPG4; Accuracy(%): 1; Fixed Output Options(V): 3.3; Iout(Max)(A): 0.4; Iq(Typ)(mA): 0.3; Rating: HiRel Enhanced Product; SubFamily: Single Channel LDO; Vdo(Typ)(mV): 75; Vin(Max)(V): 5.5; Vin(Min)(V): 1.7; DatasheetVersion: SGLS326C; PackageVersion: 4073253-4/K; PackageReference: DBV5; PackageDescription: 5-Pin Plastic Small Outline, Body 1.60 Ã— 2.90 mm, Pitch 0.95 mm; Supplier 1: Digi-Key; Supplier Part Number 1: TPS73633MDBVREPG4-ND; Supplier 2: Newark; Supplier Part Number 2: 50R8172; Supplier 3: Mouser; Supplier Part Number 3: 595-PS73633MDBVREPG4; Eco-Plan: Green (RoHS & no Sb/Br); Vout Adj(Max)(V): 3.3; Vout Adj(Min)(V): 3.3; Mounting Technology: Surface Mount; Code_JEDEC: MO-178; ComponentLink1Description: Manufacturer URL; ComponentLink1URL: http://www.ti.com/; ComponentLink2Description: Datasheet; ComponentLink2URL: http://www.ti.com/general/docs/lit/getliterature.tsp?genericPartNumber=TPS73633-EP&fileType=pdf; ComponentLink3Description: Package Specification; ComponentLink3URL: http://www.ti.com/litv/pdf/mpds018i; ComponentLink4Description: URL Link1; ComponentLink4URL: Samples URL:http://www.ti.com/product/tps73633-ep#samples
footprint TI-DBV5_N (SOT23, 5-Leads, Body 2.9x1.6mm, Pitch 0.95mm, IPC Medium Density)
footprint TI-DBV5_L (SOT23, 5-Leads, Body 2.9x1.6mm, Pitch 0.95mm, IPC High Density)
footprint TI-DBV5_M (SOT23, 5-Leads, Body 2.9x1.6mm, Pitch 0.95mm, IPC Low Density)
pins: 1 IN (power) "Input supply.", 2 GND (power) "Ground.", 3 EN (in) "Driving the enable pin (EN) high turns on the regulator .Driving this pin low puts the regulator into shutdown mode.EN can be connected to IN if not used.", 4 NR "Fixed voltage versions only; connecting an external capacitor to this pin bypasses noise generated by the internal bandgap. This capacitor allows output noise to be reduced to very low levels.", 5 OUT (power) "Output for the regulator. A small capacitor (total typical capacitance >= 2.0uF ceramic) is needed from this pin to ground to assure stability."

## TPS73643DBVR
designator U?
Single Output Low Noise LDO, 400 mA, Fixed 4.3 V Output, 1.7 to 5.5 V Input, with Reverse Current Protection, 5-pin SOT-23 (DBV), -40 to 85 degC, Green (RoHS & no Sb/Br); Manufacturer: Texas Instruments; PartNumber: TPS73643DBVR; Accuracy(%): 1; Fixed Output Options(V): 4.3; Iout(Max)(A): 0.4; Iq(Typ)(mA): 0.3; Rating: Catalog; SubFamily: Single Channel LDO; Vdo(Typ)(mV): 75; Vin(Max)(V): 5.5; Vin(Min)(V): 1.7; DatasheetVersion: SBVS038T; PackageVersion: 4073253-4/K; PackageReference: DBV5; PackageDescription: 5-Pin Plastic Small Outline, Body 1.60 Ã— 2.90 mm, Pitch 0.95 mm; Supplier 1: Digi-Key; Supplier Part Number 1: 296-17498-2-ND; Supplier 2: Digi-Key; Supplier Part Number 2: 296-17498-1-ND; Supplier 3: Digi-Key; Supplier Part Number 3: 296-17498-6-ND; Supplier 4: Mouser; Supplier Part Number 4: 595-TPS73643DBVR; Eco-Plan: Green (RoHS & no Sb/Br); Vout Adj(Max)(V): 4.3; Vout Adj(Min)(V): 4.3; Mounting Technology: Surface Mount; Code_JEDEC: MO-178; ComponentLink1Description: Manufacturer URL; ComponentLink1URL: http://www.ti.com/; ComponentLink2Description: Datasheet; ComponentLink2URL: http://www.ti.com/general/docs/lit/getliterature.tsp?genericPartNumber=TPS73643&fileType=pdf; ComponentLink3Description: Package Specification; ComponentLink3URL: http://www.ti.com/litv/pdf/mpds018i; ComponentLink4Description: URL Link1; ComponentLink4URL: Samples URL:http://www.ti.com/product/tps73643#samples
footprint TI-DBV5_N (SOT23, 5-Leads, Body 2.9x1.6mm, Pitch 0.95mm, IPC Medium Density)
footprint TI-DBV5_L (SOT23, 5-Leads, Body 2.9x1.6mm, Pitch 0.95mm, IPC High Density)
footprint TI-DBV5_M (SOT23, 5-Leads, Body 2.9x1.6mm, Pitch 0.95mm, IPC Low Density)
pins: 1 IN (power) "Input supply.", 2 GND (power) "Ground.", 3 EN (in) "Driving the enable pin (EN) high turns on the regulator .Driving this pin low puts the regulator into shutdown mode.EN can be connected to IN if not used.", 4 NR "Fixed voltage versions only; connecting an external capacitor to this pin bypasses noise generated by the internal bandgap. This capacitor allows output noise to be reduced to very low levels.", 5 OUT (power) "Output for the regulator. A small capacitor (total typical capacitance >= 2.0uF ceramic) is needed from this pin to ground to assure stability."

## TPS73643DBVRG4
designator U?
Single Output Low Noise LDO, 400 mA, Fixed 4.3 V Output, 1.7 to 5.5 V Input, with Reverse Current Protection, 5-pin SOT-23 (DBV), -40 to 85 degC, Green (RoHS & no Sb/Br); Manufacturer: Texas Instruments; PartNumber: TPS73643DBVRG4; Accuracy(%): 1; Fixed Output Options(V): 4.3; Iout(Max)(A): 0.4; Iq(Typ)(mA): 0.3; Rating: Catalog; SubFamily: Single Channel LDO; Vdo(Typ)(mV): 75; Vin(Max)(V): 5.5; Vin(Min)(V): 1.7; DatasheetVersion: SBVS038T; PackageVersion: 4073253-4/K; PackageReference: DBV5; PackageDescription: 5-Pin Plastic Small Outline, Body 1.60 Ã— 2.90 mm, Pitch 0.95 mm; Supplier 1: Digi-Key; Supplier Part Number 1: TPS73643DBVRG4-ND; Supplier 2: Newark; Supplier Part Number 2: 24K6135; Supplier 3: Mouser; Supplier Part Number 3: 595-TPS73643DBVRG4; Eco-Plan: Green (RoHS & no Sb/Br); Vout Adj(Max)(V): 4.3; Vout Adj(Min)(V): 4.3; Mounting Technology: Surface Mount; Code_JEDEC: MO-178; ComponentLink1Description: Manufacturer URL; ComponentLink1URL: http://www.ti.com/; ComponentLink2Description: Datasheet; ComponentLink2URL: http://www.ti.com/general/docs/lit/getliterature.tsp?genericPartNumber=TPS73643&fileType=pdf; ComponentLink3Description: Package Specification; ComponentLink3URL: http://www.ti.com/litv/pdf/mpds018i; ComponentLink4Description: URL Link1; ComponentLink4URL: Samples URL:http://www.ti.com/product/tps73643#samples
footprint TI-DBV5_N (SOT23, 5-Leads, Body 2.9x1.6mm, Pitch 0.95mm, IPC Medium Density)
footprint TI-DBV5_L (SOT23, 5-Leads, Body 2.9x1.6mm, Pitch 0.95mm, IPC High Density)
footprint TI-DBV5_M (SOT23, 5-Leads, Body 2.9x1.6mm, Pitch 0.95mm, IPC Low Density)
pins: 1 IN (power) "Input supply.", 2 GND (power) "Ground.", 3 EN (in) "Driving the enable pin (EN) high turns on the regulator .Driving this pin low puts the regulator into shutdown mode.EN can be connected to IN if not used.", 4 NR "Fixed voltage versions only; connecting an external capacitor to this pin bypasses noise generated by the internal bandgap. This capacitor allows output noise to be reduced to very low levels.", 5 OUT (power) "Output for the regulator. A small capacitor (total typical capacitance >= 2.0uF ceramic) is needed from this pin to ground to assure stability."

## TPS73643DBVT
designator U?
Single Output Low Noise LDO, 400 mA, Fixed 4.3 V Output, 1.7 to 5.5 V Input, with Reverse Current Protection, 5-pin SOT-23 (DBV), -40 to 85 degC, Green (RoHS & no Sb/Br); Manufacturer: Texas Instruments; PartNumber: TPS73643DBVT; Accuracy(%): 1; Fixed Output Options(V): 4.3; Iout(Max)(A): 0.4; Iq(Typ)(mA): 0.3; Rating: Catalog; SubFamily: Single Channel LDO; Vdo(Typ)(mV): 75; Vin(Max)(V): 5.5; Vin(Min)(V): 1.7; DatasheetVersion: SBVS038T; PackageVersion: 4073253-4/K; PackageReference: DBV5; PackageDescription: 5-Pin Plastic Small Outline, Body 1.60 Ã— 2.90 mm, Pitch 0.95 mm; Supplier 1: Digi-Key; Supplier Part Number 1: TPS73643DBVT-ND; Supplier 2: Newark; Supplier Part Number 2: 65J6930; Supplier 3: Mouser; Supplier Part Number 3: 595-TPS73643DBVT; Eco-Plan: Green (RoHS & no Sb/Br); Vout Adj(Max)(V): 4.3; Vout Adj(Min)(V): 4.3; Mounting Technology: Surface Mount; Code_JEDEC: MO-178; ComponentLink1Description: Manufacturer URL; ComponentLink1URL: http://www.ti.com/; ComponentLink2Description: Datasheet; ComponentLink2URL: http://www.ti.com/general/docs/lit/getliterature.tsp?genericPartNumber=TPS73643&fileType=pdf; ComponentLink3Description: Package Specification; ComponentLink3URL: http://www.ti.com/litv/pdf/mpds018i; ComponentLink4Description: URL Link1; ComponentLink4URL: Samples URL:http://www.ti.com/product/tps73643#samples
footprint TI-DBV5_N (SOT23, 5-Leads, Body 2.9x1.6mm, Pitch 0.95mm, IPC Medium Density)
footprint TI-DBV5_L (SOT23, 5-Leads, Body 2.9x1.6mm, Pitch 0.95mm, IPC High Density)
footprint TI-DBV5_M (SOT23, 5-Leads, Body 2.9x1.6mm, Pitch 0.95mm, IPC Low Density)
pins: 1 IN (power) "Input supply.", 2 GND (power) "Ground.", 3 EN (in) "Driving the enable pin (EN) high turns on the regulator .Driving this pin low puts the regulator into shutdown mode.EN can be connected to IN if not used.", 4 NR "Fixed voltage versions only; connecting an external capacitor to this pin bypasses noise generated by the internal bandgap. This capacitor allows output noise to be reduced to very low levels.", 5 OUT (power) "Output for the regulator. A small capacitor (total typical capacitance >= 2.0uF ceramic) is needed from this pin to ground to assure stability."